# Altium schematic symbol library SCH - DIODES - SCHOTTKY_CDBU0245.SCHLIB: 1 symbol
Pins are listed as number, name and electrical type; pins without a type are passive.

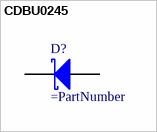
[diagram p0: symbol CDBU0245]

## CDBU0245
designator D?
Diode, Schottky, 50 V, 0.2 A, SOD-523F
footprint SOD-523F
pins: 1 K, 2 A